# EAGLE library part DAC101C081 (library Schuyler)
10-bit DAC from TI. http://www.ti.com/lit/ds/symlink/dac101c081.pdf
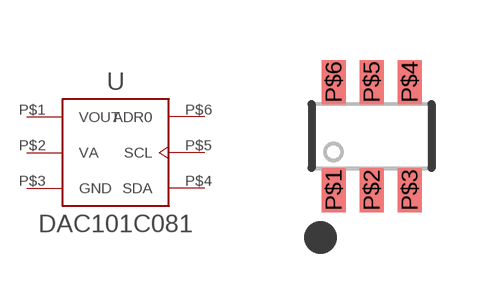
[diagram p18: symbol with the pads of SOT23-6; footprint SOT23-6]

Designator prefix -

## DAC101C081 (MANPARTNUMBER: DAC101C081CIMK/NOPB; MANUFACTURER: Texas Instruments; PARTNUMBER: DAC101C081CIMK/NOPBCT-ND; SUPPLIER: DIGIKEY; VERIFIED: FALSE)  [SOT23-6]
P$1  VOUT  out
P$2  VA  pwr
P$3  GND  pwr
P$4  SDA
P$5  SCL  in
P$6  ADR0  in

## Footprint SOT23-6 (pad centres in mm)
SOT23-6 land pattern described by TI here: http://www.ti.com/lit/ds/symlink/dac101c081.pdf
smd 0.6 x 1.1: P$1 -0.95,-1.35; P$2 0,-1.35; P$3 0.95,-1.35; P$4 0.95,1.35; P$5 0,1.35; P$6 -0.95,1.35